# Altium integrated library Transistor.IntLib: 3457 symbols (part 10 of 78)
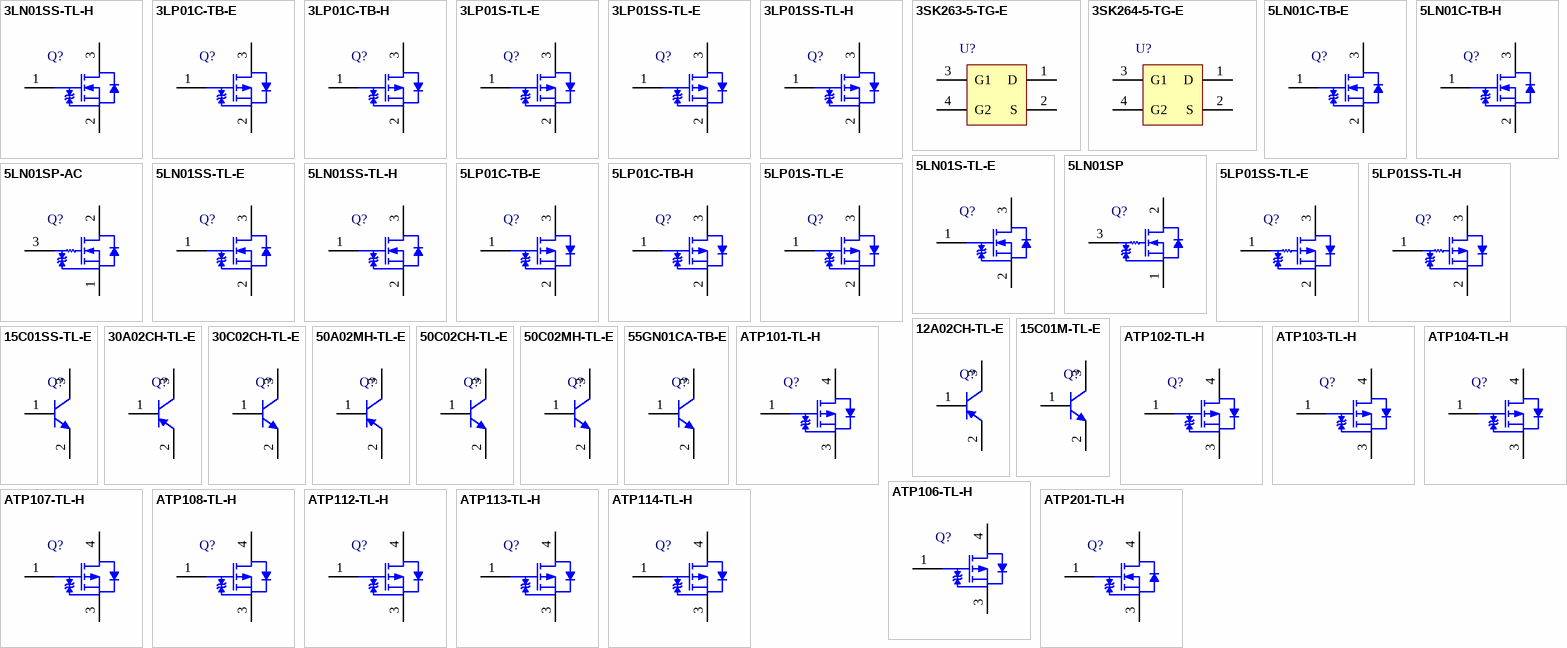
[diagram p103: symbols 3LN01SS-TL-H to ATP201-TL-H]

## ATP106-TL-H
designator Q?
P-Channel Power MOSFET, -40 V, -30 A, 25 mOhm, Single, 3-Pin ATPAK, Pb-Free, Tape and Reel; Manufacturer: On Semiconductor; PartNumber: ATP106-TL-H; Channel Polarity: P Channel; Ciss Typ (pF): 1380; Coss Typ (pF): 210; Crss Typ (pF): 150; ID Max (A): 30; PD Max (W): 40; VGS Max (V): 20; VGS(th) Max (V): 2.6; PackageVersion: Rev. O, 02/2012; PackageReference: ATPAK-3-369AM; PackageDescription: 3-Pin Flange Mount, Body 6.5 x 7.3 mm, Pitch 2.3 mm; Supplier 1: Digi-Key; Supplier Part Number 1: 869-1075-2-ND; Supplier 2: Digi-Key; Supplier Part Number 2: 869-1075-1-ND; Supplier 3: Digi-Key; Supplier Part Number 3: 869-1075-6-ND; Supplier 4: Newark; Supplier Part Number 4: 52T7523; Supplier 5: Mouser; Supplier Part Number 5: 863-ATP106-TL-H; Configuration: Single; Package Type: DPAK (Single Gauge) / ATPAK; Packing: Tape and Reel; RoHS: Pb-Free; V(BR)DSS Min (V): 40; Mounting Technology: Surface Mount; ComponentLink1Description: Manufacturer URL; ComponentLink1URL: http://www.onsemi.com/; ComponentLink2Description: Datasheet; ComponentLink2URL: http://www.onsemi.com/pub_link/Collateral/ENA1597-D.PDF; ComponentLink3Description: Package Specification; ComponentLink3URL: http://www.onsemi.com/pub_link/Collateral/369AM.PDF
footprint ONSC-ATPAK-3-369AM_V (DPAK, 3-Leads, Body 7.3x6.5mm, Pitch 2.3mm)
pins: 1 G, 3 S, 4 D

## ATP107-TL-H
designator Q?
P-Channel Power MOSFET, -40 V, -50 A, 17 mOhm, Single, 3-Pin ATPAK, Pb-Free, Tape and Reel; Manufacturer: On Semiconductor; PartNumber: ATP107-TL-H; Channel Polarity: P Channel; Ciss Typ (pF): 2400; Coss Typ (pF): 330; Crss Typ (pF): 240; ID Max (A): 50; V(BR)DSS Min (V): 40; VGS Max (V): 20; VGS(th) Max (V): 2.6; PackageVersion: Rev. O, 02/2012; PackageReference: ATPAK-3-369AM; PackageDescription: 3-Pin Flange Mount, Body 6.5 x 7.3 mm, Pitch 2.3 mm; Supplier 1: Digi-Key; Supplier Part Number 1: ATP107-TL-H-ND; Supplier 2: Newark; Supplier Part Number 2: 52T7524; Supplier 3: Mouser; Supplier Part Number 3: 863-ATP107-TL-H; Configuration: Single; Package Type: DPAK (Single Gauge) / ATPAK; Packing: Tape and Reel; PD Max (W): 50; RoHS: Pb-Free; Mounting Technology: Surface Mount; ComponentLink1Description: Manufacturer URL; ComponentLink1URL: http://www.onsemi.com/; ComponentLink2Description: Datasheet; ComponentLink2URL: http://www.onsemi.com/pub_link/Collateral/ENA1603-D.PDF; ComponentLink3Description: Package Specification; ComponentLink3URL: http://www.onsemi.com/pub_link/Collateral/369AM.PDF
footprint ONSC-ATPAK-3-369AM_V (DPAK, 3-Leads, Body 7.3x6.5mm, Pitch 2.3mm)
pins: 1 G, 3 S, 4 D

## ATP108-TL-H
designator Q?
P-Channel Power MOSFET, -40 V, -70 A, 10.4 mOhm, Single, 3-Pin ATPAK, Pb-Free, Tape and Reel; Manufacturer: On Semiconductor; PartNumber: ATP108-TL-H; Channel Polarity: P Channel; Ciss Typ (pF): 3850; Coss Typ (pF): 560; Crss Typ (pF): 390; ID Max (A): 70; PD Max (W): 60; V(BR)DSS Min (V): 40; VGS Max (V): 20; VGS(th) Max (V): 2.6; PackageVersion: Rev. O, 02/2012; PackageReference: ATPAK-3-369AM; PackageDescription: 3-Pin Flange Mount, Body 6.5 x 7.3 mm, Pitch 2.3 mm; Supplier 1: Digi-Key; Supplier Part Number 1: 869-1076-2-ND; Supplier 2: Digi-Key; Supplier Part Number 2: 869-1076-1-ND; Supplier 3: Digi-Key; Supplier Part Number 3: 869-1076-6-ND; Supplier 4: Newark; Supplier Part Number 4: 52T7525; Supplier 5: Mouser; Supplier Part Number 5: 863-ATP108-TL-H; Configuration: Single; Package Type: DPAK (Single Gauge) / ATPAK; Packing: Tape and Reel; RoHS: Pb-Free; Mounting Technology: Surface Mount; ComponentLink1Description: Manufacturer URL; ComponentLink1URL: http://www.onsemi.com/; ComponentLink2Description: Datasheet; ComponentLink2URL: http://www.onsemi.com/pub_link/Collateral/ENA1604-D.PDF; ComponentLink3Description: Package Specification; ComponentLink3URL: http://www.onsemi.com/pub_link/Collateral/369AM.PDF
footprint ONSC-ATPAK-3-369AM_V (DPAK, 3-Leads, Body 7.3x6.5mm, Pitch 2.3mm)
pins: 1 G, 3 S, 4 D

## ATP112-TL-H
designator Q?
P-Channel Power MOSFET, -60 V, -25 A, 43 mOhm, Single, 3-Pin ATPAK, Pb-Free, Tape and Reel; Manufacturer: On Semiconductor; PartNumber: ATP112-TL-H; Channel Polarity: P Channel; Ciss Typ (pF): 1450; Coss Typ (pF): 155; Crss Typ (pF): 125; ID Max (A): 25; PD Max (W): 40; V(BR)DSS Min (V): 60; VGS Max (V): 20; VGS(th) Max (V): 2.6; PackageVersion: Rev. O, 02/2012; PackageReference: ATPAK-3-369AM; PackageDescription: 3-Pin Flange Mount, Body 6.5 x 7.3 mm, Pitch 2.3 mm; Supplier 1: Digi-Key; Supplier Part Number 1: ATP112-TL-H-ND; Supplier 2: Newark; Supplier Part Number 2: 52T7526; Supplier 3: Mouser; Supplier Part Number 3: 863-ATP112-TL-H; Configuration: Single; Package Type: DPAK (Single Gauge) / ATPAK; Packing: Tape and Reel; RoHS: Pb-Free; Mounting Technology: Surface Mount; ComponentLink1Description: Manufacturer URL; ComponentLink1URL: http://www.onsemi.com/; ComponentLink2Description: Datasheet; ComponentLink2URL: http://www.onsemi.com/pub_link/Collateral/ENA1754-D.PDF; ComponentLink3Description: Package Specification; ComponentLink3URL: http://www.onsemi.com/pub_link/Collateral/369AM.PDF
footprint ONSC-ATPAK-3-369AM_V (DPAK, 3-Leads, Body 7.3x6.5mm, Pitch 2.3mm)
pins: 1 G, 3 S, 4 D

## ATP113-TL-H
designator Q?
P-Channel Power MOSFET, -60 V, -35 A, 29.5 mOhm, Single, 3-Pin ATPAK, Pb-Free, Tape and Reel; Manufacturer: On Semiconductor; PartNumber: ATP113-TL-H; Channel Polarity: P Channel; Ciss Typ (pF): 2400; Coss Typ (pF): 250; Crss Typ (pF): 195; ID Max (A): 35; PD Max (W): 50; V(BR)DSS Min (V): 60; VGS Max (V): 20; VGS(th) Max (V): 2.6; PackageVersion: Rev. O, 02/2012; PackageReference: ATPAK-3-369AM; PackageDescription: 3-Pin Flange Mount, Body 6.5 x 7.3 mm, Pitch 2.3 mm; Supplier 1: Digi-Key; Supplier Part Number 1: 869-1077-2-ND; Supplier 2: Digi-Key; Supplier Part Number 2: 869-1077-1-ND; Supplier 3: Digi-Key; Supplier Part Number 3: 869-1077-6-ND; Supplier 4: Newark; Supplier Part Number 4: 52T7527; Supplier 5: Mouser; Supplier Part Number 5: 863-ATP113-TL-H; Configuration: Single; Package Type: DPAK (Single Gauge) / ATPAK; Packing: Tape and Reel; RoHS: Pb-Free; Mounting Technology: Surface Mount; ComponentLink1Description: Manufacturer URL; ComponentLink1URL: http://www.onsemi.com/; ComponentLink2Description: Datasheet; ComponentLink2URL: http://www.onsemi.com/pub_link/Collateral/ENA1755-D.PDF; ComponentLink3Description: Package Specification; ComponentLink3URL: http://www.onsemi.com/pub_link/Collateral/369AM.PDF
footprint ONSC-ATPAK-3-369AM_V (DPAK, 3-Leads, Body 7.3x6.5mm, Pitch 2.3mm)
pins: 1 G, 3 S, 4 D

## ATP114-TL-H
designator Q?
P-Channel Power MOSFET, -60 V, -55 A, 16 mOhm, Single, 3-Pin ATPAK, Pb-Free, Tape and Reel; Manufacturer: On Semiconductor; PartNumber: ATP114-TL-H; Channel Polarity: P Channel; Ciss Typ (pF): 4000; Coss Typ (pF): 400; Crss Typ (pF): 315; ID Max (A): 55; PD Max (W): 60; VGS Max (V): 20; VGS(th) Max (V): 2.6; PackageVersion: Rev. O, 02/2012; PackageReference: ATPAK-3-369AM; PackageDescription: 3-Pin Flange Mount, Body 6.5 x 7.3 mm, Pitch 2.3 mm; Supplier 1: Digi-Key; Supplier Part Number 1: ATP114-TL-H-ND; Supplier 2: Mouser; Supplier Part Number 2: 863-ATP114-TL-H; Configuration: Single; Package Type: DPAK (Single Gauge) / ATPAK; Packing: Tape and Reel; RoHS: Pb-Free; V(BR)DSS Min (V): 60; Mounting Technology: Surface Mount; ComponentLink1Description: Manufacturer URL; ComponentLink1URL: http://www.onsemi.com/; ComponentLink2Description: Datasheet; ComponentLink2URL: http://www.onsemi.com/pub_link/Collateral/ATP114-D.PDF; ComponentLink3Description: Package Specification; ComponentLink3URL: http://www.onsemi.com/pub_link/Collateral/369AM.PDF
footprint ONSC-ATPAK-3-369AM_V (DPAK, 3-Leads, Body 7.3x6.5mm, Pitch 2.3mm)
pins: 1 G, 3 S, 4 D

## ATP201-TL-H
designator Q?
N-Channel Power MOSFET, 30 V, 35 A, 17 mOhm, Single, 3-Pin ATPAK, Pb-Free, Tape and Reel; Manufacturer: On Semiconductor; PartNumber: ATP201-TL-H; Channel Polarity: N Channel; Ciss Typ (pF): 985; Coss Typ (pF): 180; Crss Typ (pF): 100; ID Max (A): 35; PD Max (W): 30; VGS Max (V): 20; VGS(th) Max (V): 2.6; PackageVersion: Rev. O, 02/2012; PackageReference: ATPAK-3-369AM; PackageDescription: 3-Pin Flange Mount, Body 6.5 x 7.3 mm, Pitch 2.3 mm; Supplier 1: Digi-Key; Supplier Part Number 1: ATP201-TL-H-ND; Supplier 2: Mouser; Supplier Part Number 2: 863-ATP201-TL-H; Configuration: Single; Package Type: DPAK (Single Gauge) / ATPAK; Packing: Tape and Reel; RoHS: Pb-Free; V(BR)DSS Min (V): 30; Mounting Technology: Surface Mount; ComponentLink1Description: Manufacturer URL; ComponentLink1URL: http://www.onsemi.com/; ComponentLink2Description: Datasheet; ComponentLink2URL: http://www.onsemi.com/pub_link/Collateral/ATP201-D.PDF; ComponentLink3Description: Package Specification; ComponentLink3URL: http://www.onsemi.com/pub_link/Collateral/369AM.PDF
footprint ONSC-ATPAK-3-369AM_V (DPAK, 3-Leads, Body 7.3x6.5mm, Pitch 2.3mm)
pins: 1 G, 3 S, 4 D

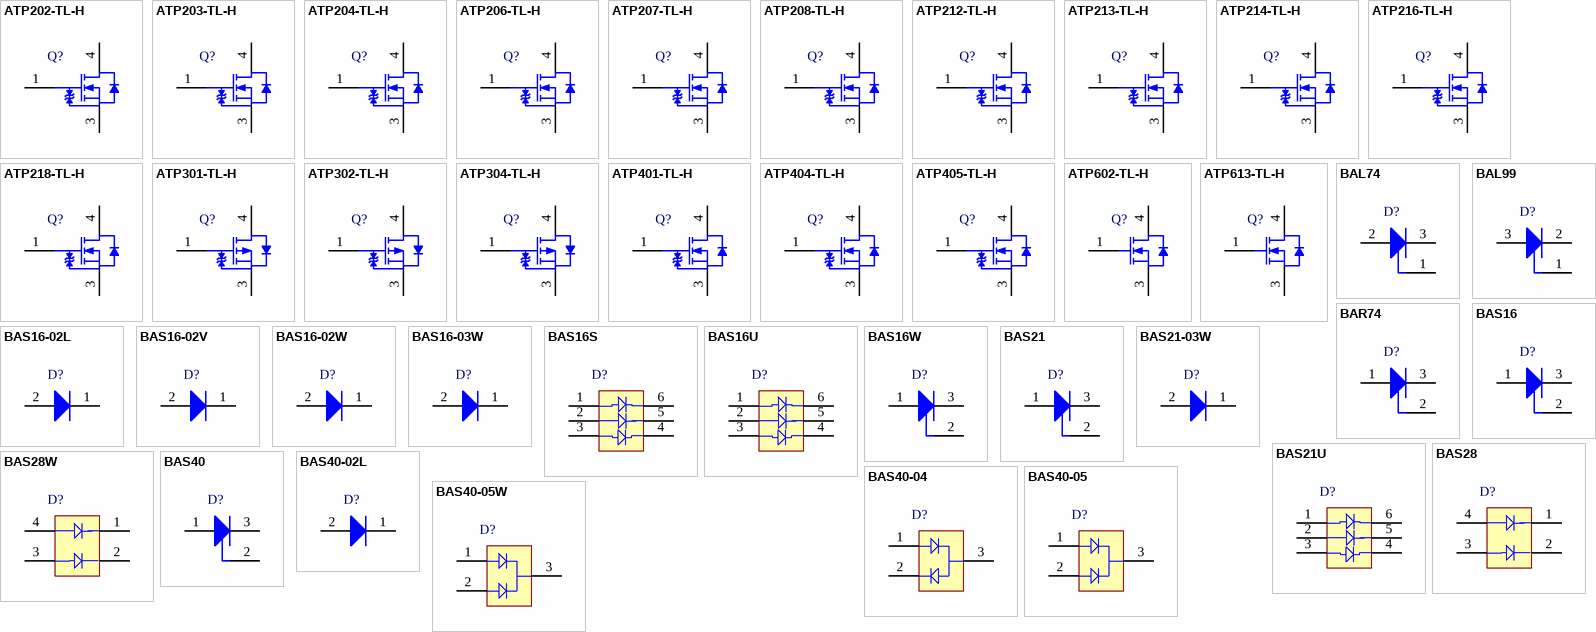
[diagram p11: symbols ATP202-TL-H to BAS40-05W]

## ATP202-TL-H
designator Q?
N-Channel Power MOSFET, 30 V, 50 A, 12 mOhm, Single, 3-Pin ATPAK, Pb-Free, Tape and Reel; Manufacturer: On Semiconductor; PartNumber: ATP202-TL-H; Channel Polarity: N Channel; Ciss Typ (pF): 1650; Coss Typ (pF): 285; Crss Typ (pF): 160; ID Max (A): 50; PD Max (W): 40; V(BR)DSS Min (V): 30; VGS Max (V): 20; VGS(th) Max (V): 2.6; PackageVersion: Rev. O, 02/2012; PackageReference: ATPAK-3-369AM; PackageDescription: 3-Pin Flange Mount, Body 6.5 x 7.3 mm, Pitch 2.3 mm; Supplier 1: Digi-Key; Supplier Part Number 1: 869-1078-2-ND; Supplier 2: Digi-Key; Supplier Part Number 2: 869-1078-1-ND; Supplier 3: Digi-Key; Supplier Part Number 3: 869-1078-6-ND; Supplier 4: Mouser; Supplier Part Number 4: 863-ATP202-TL-H; Configuration: Single; Package Type: DPAK (Single Gauge) / ATPAK; Packing: Tape and Reel; RoHS: Pb-Free; Mounting Technology: Surface Mount; ComponentLink1Description: Manufacturer URL; ComponentLink1URL: http://www.onsemi.com/; ComponentLink2Description: Datasheet; ComponentLink2URL: http://www.onsemi.com/pub_link/Collateral/ATP202-D.PDF; ComponentLink3Description: Package Specification; ComponentLink3URL: http://www.onsemi.com/pub_link/Collateral/369AM.PDF
footprint ONSC-ATPAK-3-369AM_V (DPAK, 3-Leads, Body 7.3x6.5mm, Pitch 2.3mm)
pins: 1 G, 3 S, 4 D

## ATP203-TL-H
designator Q?
N-Channel Power MOSFET, 30 V, 75 A, 8.2 mOhm, Single, 3-Pin ATPAK, Pb-Free, Tape and Reel; Manufacturer: On Semiconductor; PartNumber: ATP203-TL-H; Channel Polarity: N Channel; Ciss Typ (pF): 2750; Coss Typ (pF): 450; Crss Typ (pF): 265; ID Max (A): 75; PD Max (W): 50; V(BR)DSS Min (V): 30; VGS Max (V): 20; VGS(th) Max (V): 2.6; PackageVersion: Rev. O, 02/2012; PackageReference: ATPAK-3-369AM; PackageDescription: 3-Pin Flange Mount, Body 6.5 x 7.3 mm, Pitch 2.3 mm; Supplier 1: Digi-Key; Supplier Part Number 1: 869-1079-2-ND; Supplier 2: Digi-Key; Supplier Part Number 2: 869-1079-1-ND; Supplier 3: Digi-Key; Supplier Part Number 3: 869-1079-6-ND; Supplier 4: Mouser; Supplier Part Number 4: 863-ATP203-TL-H; Configuration: Single; Package Type: DPAK (Single Gauge) / ATPAK; Packing: Tape and Reel; RoHS: Pb-Free; Mounting Technology: Surface Mount; ComponentLink1Description: Manufacturer URL; ComponentLink1URL: http://www.onsemi.com/; ComponentLink2Description: Datasheet; ComponentLink2URL: http://www.onsemi.com/pub_link/Collateral/ATP203-D.PDF; ComponentLink3Description: Package Specification; ComponentLink3URL: http://www.onsemi.com/pub_link/Collateral/369AM.PDF
footprint ONSC-ATPAK-3-369AM_V (DPAK, 3-Leads, Body 7.3x6.5mm, Pitch 2.3mm)
pins: 1 G, 3 S, 4 D

## ATP204-TL-H
designator Q?
N-Channel Power MOSFET, 30 V, 100 A, 5.6 mOhm, Single, 3-Pin ATPAK, Pb-Free, Tape and Reel; Manufacturer: On Semiconductor; PartNumber: ATP204-TL-H; Channel Polarity: N Channel; Ciss Typ (pF): 4600; Coss Typ (pF): 700; Crss Typ (pF): 390; ID Max (A): 100; PD Max (W): 60; V(BR)DSS Min (V): 30; VGS Max (V): 20; VGS(th) Max (V): 2.6; PackageVersion: Rev. O, 02/2012; PackageReference: ATPAK-3-369AM; PackageDescription: 3-Pin Flange Mount, Body 6.5 x 7.3 mm, Pitch 2.3 mm; Supplier 1: Digi-Key; Supplier Part Number 1: 869-1080-2-ND; Supplier 2: Digi-Key; Supplier Part Number 2: 869-1080-1-ND; Supplier 3: Digi-Key; Supplier Part Number 3: 869-1080-6-ND; Supplier 4: Mouser; Supplier Part Number 4: 863-ATP204-TL-H; Configuration: Single; Package Type: DPAK (Single Gauge) / ATPAK; Packing: Tape and Reel; RoHS: Pb-Free; Mounting Technology: Surface Mount; ComponentLink1Description: Manufacturer URL; ComponentLink1URL: http://www.onsemi.com/; ComponentLink2Description: Datasheet; ComponentLink2URL: http://www.onsemi.com/pub_link/Collateral/ATP204-D.PDF; ComponentLink3Description: Package Specification; ComponentLink3URL: http://www.onsemi.com/pub_link/Collateral/369AM.PDF
footprint ONSC-ATPAK-3-369AM_V (DPAK, 3-Leads, Body 7.3x6.5mm, Pitch 2.3mm)
pins: 1 G, 3 S, 4 D

## ATP206-TL-H
designator Q?
N-Channel Power MOSFET, 40 V, 40 A, 16 mOhm, Single, 3-Pin ATPAK, Pb-Free, Tape and Reel; Manufacturer: On Semiconductor; PartNumber: ATP206-TL-H; Channel Polarity: N Channel; Ciss Typ (pF): 1630; Coss Typ (pF): 205; Crss Typ (pF): 110; ID Max (A): 40; VGS Max (V): 20; VGS(th) Max (V): 2.6; PackageVersion: Rev. O, 02/2012; PackageReference: ATPAK-3-369AM; PackageDescription: 3-Pin Flange Mount, Body 6.5 x 7.3 mm, Pitch 2.3 mm; Supplier 1: Digi-Key; Supplier Part Number 1: 869-1081-2-ND; Supplier 2: Digi-Key; Supplier Part Number 2: 869-1081-1-ND; Supplier 3: Digi-Key; Supplier Part Number 3: 869-1081-6-ND; Supplier 4: Mouser; Supplier Part Number 4: 863-ATP206-TL-H; Configuration: Single; Package Type: DPAK (Single Gauge) / ATPAK; Packing: Tape and Reel; PD Max (W): 40; RoHS: Pb-Free; V(BR)DSS Min (V): 40; Mounting Technology: Surface Mount; ComponentLink1Description: Manufacturer URL; ComponentLink1URL: http://www.onsemi.com/; ComponentLink2Description: Datasheet; ComponentLink2URL: http://www.onsemi.com/pub_link/Collateral/ATP206-D.PDF; ComponentLink3Description: Package Specification; ComponentLink3URL: http://www.onsemi.com/pub_link/Collateral/369AM.PDF
footprint ONSC-ATPAK-3-369AM_V (DPAK, 3-Leads, Body 7.3x6.5mm, Pitch 2.3mm)
pins: 1 G, 3 S, 4 D

## ATP207-TL-H
designator Q?
N-Channel Power MOSFET, 40 V, 65 A, 9.1 mOhm, Single, 3-Pin ATPAK, Pb-Free, Tape and Reel; Manufacturer: On Semiconductor; PartNumber: ATP207-TL-H; Channel Polarity: N Channel; Ciss Typ (pF): 2710; Coss Typ (pF): 330; Crss Typ (pF): 220; ID Max (A): 65; PD Max (W): 50; V(BR)DSS Min (V): 40; VGS Max (V): 20; VGS(th) Max (V): 2.6; PackageVersion: Rev. O, 02/2012; PackageReference: ATPAK-3-369AM; PackageDescription: 3-Pin Flange Mount, Body 6.5 x 7.3 mm, Pitch 2.3 mm; Supplier 1: Digi-Key; Supplier Part Number 1: 869-1082-2-ND; Supplier 2: Digi-Key; Supplier Part Number 2: 869-1082-1-ND; Supplier 3: Digi-Key; Supplier Part Number 3: 869-1082-6-ND; Supplier 4: Mouser; Supplier Part Number 4: 863-ATP207-TL-H; Configuration: Single; Package Type: DPAK (Single Gauge) / ATPAK; Packing: Tape and Reel; RoHS: Pb-Free; Mounting Technology: Surface Mount; ComponentLink1Description: Manufacturer URL; ComponentLink1URL: http://www.onsemi.com/; ComponentLink2Description: Datasheet; ComponentLink2URL: http://www.onsemi.com/pub_link/Collateral/ATP207-D.PDF; ComponentLink3Description: Package Specification; ComponentLink3URL: http://www.onsemi.com/pub_link/Collateral/369AM.PDF
footprint ONSC-ATPAK-3-369AM_V (DPAK, 3-Leads, Body 7.3x6.5mm, Pitch 2.3mm)
pins: 1 G, 3 S, 4 D

## ATP208-TL-H
designator Q?
N-Channel Power MOSFET, 40 V, 90 A, 6 mOhm, Single, 3-Pin ATPAK, Pb-Free, Tape and Reel; Manufacturer: On Semiconductor; PartNumber: ATP208-TL-H; Channel Polarity: N Channel; Ciss Typ (pF): 4510; Coss Typ (pF): 535; Crss Typ (pF): 385; ID Max (A): 90; PD Max (W): 60; V(BR)DSS Min (V): 40; VGS Max (V): 20; VGS(th) Max (V): 2.6; PackageVersion: Rev. O, 02/2012; PackageReference: ATPAK-3-369AM; PackageDescription: 3-Pin Flange Mount, Body 6.5 x 7.3 mm, Pitch 2.3 mm; Supplier 1: Digi-Key; Supplier Part Number 1: 869-1083-2-ND; Supplier 2: Digi-Key; Supplier Part Number 2: 869-1083-1-ND; Supplier 3: Digi-Key; Supplier Part Number 3: 869-1083-6-ND; Supplier 4: Mouser; Supplier Part Number 4: 863-ATP208-TL-H; Configuration: Single; Package Type: DPAK (Single Gauge) / ATPAK; Packing: Tape and Reel; RoHS: Pb-Free; Mounting Technology: Surface Mount; ComponentLink1Description: Manufacturer URL; ComponentLink1URL: http://www.onsemi.com/; ComponentLink2Description: Datasheet; ComponentLink2URL: http://www.onsemi.com/pub_link/Collateral/ATP208-D.PDF; ComponentLink3Description: Package Specification; ComponentLink3URL: http://www.onsemi.com/pub_link/Collateral/369AM.PDF
footprint ONSC-ATPAK-3-369AM_V (DPAK, 3-Leads, Body 7.3x6.5mm, Pitch 2.3mm)
pins: 1 G, 3 S, 4 D

## ATP212-TL-H
designator Q?
N-Channel Power MOSFET, 60 V, 35 A, 23 mOhm, Single, 3-Pin ATPAK, Pb-Free, Tape and Reel; Manufacturer: On Semiconductor; PartNumber: ATP212-TL-H; Channel Polarity: N Channel; Ciss Typ (pF): 1820; Coss Typ (pF): 150; Crss Typ (pF): 100; ID Max (A): 35; PD Max (W): 40; V(BR)DSS Min (V): 60; VGS Max (V): 20; VGS(th) Max (V): 2.6; PackageVersion: Rev. O, 02/2012; PackageReference: ATPAK-3-369AM; PackageDescription: 3-Pin Flange Mount, Body 6.5 x 7.3 mm, Pitch 2.3 mm; Supplier 1: Digi-Key; Supplier Part Number 1: 869-1084-2-ND; Supplier 2: Digi-Key; Supplier Part Number 2: 869-1084-1-ND; Supplier 3: Digi-Key; Supplier Part Number 3: 869-1084-6-ND; Supplier 4: Mouser; Supplier Part Number 4: 863-ATP212-TL-H; Configuration: Single; Package Type: DPAK (Single Gauge) / ATPAK; Packing: Tape and Reel; RoHS: Pb-Free; Mounting Technology: Surface Mount; ComponentLink1Description: Manufacturer URL; ComponentLink1URL: http://www.onsemi.com/; ComponentLink2Description: Datasheet; ComponentLink2URL: http://www.onsemi.com/pub_link/Collateral/ATP212-D.PDF; ComponentLink3Description: Package Specification; ComponentLink3URL: http://www.onsemi.com/pub_link/Collateral/369AM.PDF
footprint ONSC-ATPAK-3-369AM_V (DPAK, 3-Leads, Body 7.3x6.5mm, Pitch 2.3mm)
pins: 1 G, 3 S, 4 D

## ATP213-TL-H
designator Q?
N-Channel Power MOSFET, 60 V, 50 A, 16 mOhm, Single, 3-Pin ATPAK, Pb-Free, Tape and Reel; Manufacturer: On Semiconductor; PartNumber: ATP213-TL-H; Channel Polarity: N Channel; Ciss Typ (pF): 3150; Coss Typ (pF): 310; Crss Typ (pF): 190; ID Max (A): 50; V(BR)DSS Min (V): 60; VGS Max (V): 20; VGS(th) Max (V): 2.6; PackageVersion: Rev. O, 02/2012; PackageReference: ATPAK-3-369AM; PackageDescription: 3-Pin Flange Mount, Body 6.5 x 7.3 mm, Pitch 2.3 mm; Supplier 1: Digi-Key; Supplier Part Number 1: 869-1085-2-ND; Supplier 2: Digi-Key; Supplier Part Number 2: 869-1085-1-ND; Supplier 3: Digi-Key; Supplier Part Number 3: 869-1085-6-ND; Supplier 4: Mouser; Supplier Part Number 4: 863-ATP213-TL-H; Configuration: Single; Package Type: DPAK (Single Gauge) / ATPAK; Packing: Tape and Reel; PD Max (W): 50; RoHS: Pb-Free; Mounting Technology: Surface Mount; ComponentLink1Description: Manufacturer URL; ComponentLink1URL: http://www.onsemi.com/; ComponentLink2Description: Datasheet; ComponentLink2URL: http://www.onsemi.com/pub_link/Collateral/ATP213-D.PDF; ComponentLink3Description: Package Specification; ComponentLink3URL: http://www.onsemi.com/pub_link/Collateral/369AM.PDF
footprint ONSC-ATPAK-3-369AM_V (DPAK, 3-Leads, Body 7.3x6.5mm, Pitch 2.3mm)
pins: 1 G, 3 S, 4 D

## ATP214-TL-H
designator Q?
N-Channel Power MOSFET, 60 V, 75 A, 8.1 mOhm, Single, 3-Pin ATPAK, Pb-Free, Tape and Reel; Manufacturer: On Semiconductor; PartNumber: ATP214-TL-H; Channel Polarity: N Channel; Ciss Typ (pF): 4850; Coss Typ (pF): 370; Crss Typ (pF): 280; ID Max (A): 75; PD Max (W): 60; VGS Max (V): 20; VGS(th) Max (V): 2.6; PackageVersion: Rev. O, 02/2012; PackageReference: ATPAK-3-369AM; PackageDescription: 3-Pin Flange Mount, Body 6.5 x 7.3 mm, Pitch 2.3 mm; Supplier 1: Digi-Key; Supplier Part Number 1: ATP214-TL-H-ND; Supplier 2: Mouser; Supplier Part Number 2: 863-ATP214-TL-H; Configuration: Single; Package Type: DPAK (Single Gauge) / ATPAK; Packing: Tape and Reel; RoHS: Pb-Free; V(BR)DSS Min (V): 60; Mounting Technology: Surface Mount; ComponentLink1Description: Manufacturer URL; ComponentLink1URL: http://www.onsemi.com/; ComponentLink2Description: Datasheet; ComponentLink2URL: http://www.onsemi.com/pub_link/Collateral/ENA1712-D.PDF; ComponentLink3Description: Package Specification; ComponentLink3URL: http://www.onsemi.com/pub_link/Collateral/369AM.PDF
footprint ONSC-ATPAK-3-369AM_V (DPAK, 3-Leads, Body 7.3x6.5mm, Pitch 2.3mm)
pins: 1 G, 3 S, 4 D

## ATP216-TL-H
designator Q?
N-Channel Power MOSFET, 50 V, 35 A, 23 mOhm, Single, 3-Pin ATPAK, Pb-Free, Tape and Reel; Manufacturer: On Semiconductor; PartNumber: ATP216-TL-H; Channel Polarity: N Channel; Ciss Typ (pF): 2700; Coss Typ (pF): 150; Crss Typ (pF): 110; ID Max (A): 35; PD Max (W): 40; V(BR)DSS Min (V): 50; VGS Max (V): 10; VGS(th) Max (V): 1.4; PackageVersion: Rev. O, 02/2012; PackageReference: ATPAK-3-369AM; PackageDescription: 3-Pin Flange Mount, Body 6.5 x 7.3 mm, Pitch 2.3 mm; Supplier 1: Digi-Key; Supplier Part Number 1: ATP216-TL-H-ND; Supplier 2: Mouser; Supplier Part Number 2: 863-ATP216-TL-H; Configuration: Single; Package Type: DPAK (Single Gauge) / ATPAK; Packing: Tape and Reel; RoHS: Pb-Free; Mounting Technology: Surface Mount; ComponentLink1Description: Manufacturer URL; ComponentLink1URL: http://www.onsemi.com/; ComponentLink2Description: Datasheet; ComponentLink2URL: http://www.onsemi.com/pub_link/Collateral/ATP216-D.PDF; ComponentLink3Description: Package Specification; ComponentLink3URL: http://www.onsemi.com/pub_link/Collateral/369AM.PDF
footprint ONSC-ATPAK-3-369AM_V (DPAK, 3-Leads, Body 7.3x6.5mm, Pitch 2.3mm)
pins: 1 G, 3 S, 4 D

## ATP218-TL-H
designator Q?
N-Channel Power MOSFET, 30 V, 100 A, 3.8 mOhm, Single, 3-Pin ATPAK, Pb-Free, Tape and Reel; Manufacturer: On Semiconductor; PartNumber: ATP218-TL-H; Channel Polarity: N Channel; Ciss Typ (pF): 6600; Coss Typ (pF): 780; Crss Typ (pF): 600; ID Max (A): 100; PD Max (W): 60; V(BR)DSS Min (V): 30; VGS Max (V): 10; VGS(th) Max (V): 1.3; PackageVersion: Rev. O, 02/2012; PackageReference: ATPAK-3-369AM; PackageDescription: 3-Pin Flange Mount, Body 6.5 x 7.3 mm, Pitch 2.3 mm; Supplier 1: Digi-Key; Supplier Part Number 1: ATP218-TL-H-ND; Supplier 2: Mouser; Supplier Part Number 2: 863-ATP218-TL-H; Configuration: Single; Package Type: DPAK (Single Gauge) / ATPAK; Packing: Tape and Reel; RoHS: Pb-Free; Mounting Technology: Surface Mount; ComponentLink1Description: Manufacturer URL; ComponentLink1URL: http://www.onsemi.com/; ComponentLink2Description: Datasheet; ComponentLink2URL: http://www.onsemi.com/pub_link/Collateral/ATP218-D.PDF; ComponentLink3Description: Package Specification; ComponentLink3URL: http://www.onsemi.com/pub_link/Collateral/369AM.PDF
footprint ONSC-ATPAK-3-369AM_V (DPAK, 3-Leads, Body 7.3x6.5mm, Pitch 2.3mm)
pins: 1 G, 3 S, 4 D

## ATP301-TL-H
designator Q?
P-Channel Power MOSFET, -100 V, -28 A, 75 mOhm, 3-Pin ATPAK, Pb-Free, Tape and Reel; Manufacturer: On Semiconductor; PartNumber: ATP301-TL-H; Channel Polarity: P Channel; Ciss Typ (pF): 4000; Configuration: Single; Coss Typ (pF): 270; Crss Typ (pF): 150; ID Max (A): 28; PD Max (W): 70; V(BR)DSS Min (V): 100; VGS Max (V): 20; VGS(th) Max (V): 3.5; PackageVersion: Rev. O, 02/2012; PackageReference: ATPAK-3-369AM; PackageDescription: 3-Pin Flange Mount, Body 6.5 x 7.3 mm, Pitch 2.3 mm; Supplier 1: Digi-Key; Supplier Part Number 1: 869-1086-2-ND; Supplier 2: Digi-Key; Supplier Part Number 2: 869-1086-1-ND; Supplier 3: Digi-Key; Supplier Part Number 3: 869-1086-6-ND; Supplier 4: Newark; Supplier Part Number 4: 52T7541; Supplier 5: Mouser; Supplier Part Number 5: 863-ATP301-TL-H; Package Type: DPAK (Single Gauge) / ATPAK; Packing: Tape and Reel; RoHS: Pb-Free; Mounting Technology: Surface Mount; ComponentLink1Description: Manufacturer URL; ComponentLink1URL: http://www.onsemi.com/; ComponentLink2Description: Datasheet; ComponentLink2URL: http://www.onsemi.com/pub_link/Collateral/ATP301-D.PDF; ComponentLink3Description: Package Specification; ComponentLink3URL: http://www.onsemi.com/pub_link/Collateral/369AM.PDF
footprint ONSC-ATPAK-3-369AM_V (DPAK, 3-Leads, Body 7.3x6.5mm, Pitch 2.3mm)
pins: 1 G, 3 S, 4 D

## ATP302-TL-H
designator Q?
P-Channel Power MOSFET, -60 V, -70 A, 13 mOhm, 3-Pin ATPAK, Pb-Free, Tape and Reel; Manufacturer: On Semiconductor; PartNumber: ATP302-TL-H; Channel Polarity: P Channel; Ciss Typ (pF): 5400; Configuration: Single; Coss Typ (pF): 500; Crss Typ (pF): 370; ID Max (A): 70; V(BR)DSS Min (V): 60; VGS Max (V): 20; VGS(th) Max (V): 2.6; PackageVersion: Rev. O, 02/2012; PackageReference: ATPAK-3-369AM; PackageDescription: 3-Pin Flange Mount, Body 6.5 x 7.3 mm, Pitch 2.3 mm; Supplier 1: Digi-Key; Supplier Part Number 1: ATP302-TL-H-ND; Supplier 2: Newark; Supplier Part Number 2: 52T7542; Supplier 3: Mouser; Supplier Part Number 3: 863-ATP302-TL-H; Package Type: DPAK (Single Gauge) / ATPAK; Packing: Tape and Reel; PD Max (W): 70; RoHS: Pb-Free; Mounting Technology: Surface Mount; ComponentLink1Description: Manufacturer URL; ComponentLink1URL: http://www.onsemi.com/; ComponentLink2Description: Datasheet; ComponentLink2URL: http://www.onsemi.com/pub_link/Collateral/ATP302-D.PDF; ComponentLink3Description: Package Specification; ComponentLink3URL: http://www.onsemi.com/pub_link/Collateral/369AM.PDF
footprint ONSC-ATPAK-3-369AM_V (DPAK, 3-Leads, Body 7.3x6.5mm, Pitch 2.3mm)
pins: 1 G, 3 S, 4 D

## ATP304-TL-H
designator Q?
P-Channel Power MOSFET, -60 V, -100 A, 6.5 mOhm, 3-Pin ATPAK, Pb-Free, Tape and Reel; Manufacturer: On Semiconductor; PartNumber: ATP304-TL-H; Channel Polarity: P Channel; Ciss Typ (pF): 13000; Configuration: Single; Coss Typ (pF): 1080; Crss Typ (pF): 760; ID Max (A): 100; PD Max (W): 90; Qrr Typ (nC): 245; V(BR)DSS Min (V): 60; VGS Max (V): 20; VGS(th) Max (V): 2.6; PackageVersion: Rev. O, 02/2012; PackageReference: ATPAK-3-369AM; PackageDescription: 3-Pin Flange Mount, Body 6.5 x 7.3 mm, Pitch 2.3 mm; Supplier 1: Newark; Supplier Part Number 1: 97W4952; Supplier 2: Mouser; Supplier Part Number 2: 863-ATP304-TL-H; Package Type: DPAK (Single Gauge) / ATPAK; Packing: Tape and Reel; RoHS: Pb-Free; Mounting Technology: Surface Mount; ComponentLink1Description: Manufacturer URL; ComponentLink1URL: http://www.onsemi.com/; ComponentLink2Description: Datasheet; ComponentLink2URL: http://www.onsemi.com/pub_link/Collateral/ENA2192-D.PDF; ComponentLink3Description: Package Specification; ComponentLink3URL: http://www.onsemi.com/pub_link/Collateral/369AM.PDF
footprint ONSC-ATPAK-3-369AM_V (DPAK, 3-Leads, Body 7.3x6.5mm, Pitch 2.3mm)
pins: 1 G, 3 S, 4 D

## ATP401-TL-H
designator Q?
N-Channel Power MOSFET, 60 V, 100 A, 3.7 mOhm, 3-Pin ATPAK, Pb-Free, Tape and Reel; Manufacturer: On Semiconductor; PartNumber: ATP401-TL-H; Channel Polarity: N Channel; Ciss Typ (pF): 17000; Configuration: Single; Coss Typ (pF): 1000; Crss Typ (pF): 770; ID Max (A): 100; PD Max (W): 90; V(BR)DSS Min (V): 60; VGS Max (V): 20; VGS(th) Max (V): 2.6; PackageVersion: Rev. O, 02/2012; PackageReference: ATPAK-3-369AM; PackageDescription: 3-Pin Flange Mount, Body 6.5 x 7.3 mm, Pitch 2.3 mm; Supplier 1: Newark; Supplier Part Number 1: 97W4953; Supplier 2: Mouser; Supplier Part Number 2: 863-ATP401-TL-H; Package Type: DPAK (Single Gauge) / ATPAK; Packing: Tape and Reel; RoHS: Pb-Free; Mounting Technology: Surface Mount; ComponentLink1Description: Manufacturer URL; ComponentLink1URL: http://www.onsemi.com/; ComponentLink2Description: Datasheet; ComponentLink2URL: http://www.onsemi.com/pub_link/Collateral/ENA2167-D.PDF; ComponentLink3Description: Package Specification; ComponentLink3URL: http://www.onsemi.com/pub_link/Collateral/369AM.PDF
footprint ONSC-ATPAK-3-369AM_V (DPAK, 3-Leads, Body 7.3x6.5mm, Pitch 2.3mm)
pins: 1 G, 3 S, 4 D

## ATP404-TL-H
designator Q?
N-Channel Power MOSFET, 60 V, 95 A, 7.2 mOhm, 3-Pin ATPAK, Pb-Free, Tape and Reel; Manufacturer: On Semiconductor; PartNumber: ATP404-TL-H; Channel Polarity: N Channel; Ciss Typ (pF): 6400; Configuration: Single; Coss Typ (pF): 490; Crss Typ (pF): 380; ID Max (A): 95; PD Max (W): 70; V(BR)DSS Min (V): 60; VGS Max (V): 20; VGS(th) Max (V): 2.6; PackageVersion: Rev. O, 02/2012; PackageReference: ATPAK-3-369AM; PackageDescription: 3-Pin Flange Mount, Body 6.5 x 7.3 mm, Pitch 2.3 mm; Supplier 1: Digi-Key; Supplier Part Number 1: 869-1087-2-ND; Supplier 2: Digi-Key; Supplier Part Number 2: 869-1087-1-ND; Supplier 3: Digi-Key; Supplier Part Number 3: 869-1087-6-ND; Supplier 4: Mouser; Supplier Part Number 4: 863-ATP404-TL-H; Package Type: DPAK (Single Gauge) / ATPAK; Packing: Tape and Reel; RoHS: Pb-Free; Mounting Technology: Surface Mount; ComponentLink1Description: Manufacturer URL; ComponentLink1URL: http://www.onsemi.com/; ComponentLink2Description: Datasheet; ComponentLink2URL: http://www.onsemi.com/pub_link/Collateral/ATP404-D.PDF; ComponentLink3Description: Package Specification; ComponentLink3URL: http://www.onsemi.com/pub_link/Collateral/369AM.PDF
footprint ONSC-ATPAK-3-369AM_V (DPAK, 3-Leads, Body 7.3x6.5mm, Pitch 2.3mm)
pins: 1 G, 3 S, 4 D

## ATP405-TL-H
designator Q?
N-Channel Power MOSFET, 100 V, 40 A, 33 mOhm, 3-Pin ATPAK, Pb-Free, Tape and Reel; Manufacturer: On Semiconductor; PartNumber: ATP405-TL-H; Channel Polarity: N Channel; Ciss Typ (pF): 4000; Configuration: Single; Coss Typ (pF): 300; Crss Typ (pF): 170; ID Max (A): 40; PD Max (W): 70; V(BR)DSS Min (V): 100; VGS Max (V): 20; VGS(th) Max (V): 3.5; PackageVersion: Rev. O, 02/2012; PackageReference: ATPAK-3-369AM; PackageDescription: 3-Pin Flange Mount, Body 6.5 x 7.3 mm, Pitch 2.3 mm; Supplier 1: Digi-Key; Supplier Part Number 1: 869-1088-2-ND; Supplier 2: Digi-Key; Supplier Part Number 2: 869-1088-1-ND; Supplier 3: Digi-Key; Supplier Part Number 3: 869-1088-6-ND; Supplier 4: Mouser; Supplier Part Number 4: 863-ATP405-TL-H; Package Type: DPAK (Single Gauge) / ATPAK; Packing: Tape and Reel; RoHS: Pb-Free; Mounting Technology: Surface Mount; ComponentLink1Description: Manufacturer URL; ComponentLink1URL: http://www.onsemi.com/; ComponentLink2Description: Datasheet; ComponentLink2URL: http://www.onsemi.com/pub_link/Collateral/ATP405-D.PDF; ComponentLink3Description: Package Specification; ComponentLink3URL: http://www.onsemi.com/pub_link/Collateral/369AM.PDF
footprint ONSC-ATPAK-3-369AM_V (DPAK, 3-Leads, Body 7.3x6.5mm, Pitch 2.3mm)
pins: 1 G, 3 S, 4 D

## ATP602-TL-H
designator Q?
N-Channel Power MOSFET, 600 V, 5 A, 2.7 Ohm, 3-Pin ATPAK, Pb-Free, Tape and Reel; Manufacturer: On Semiconductor; PartNumber: ATP602-TL-H; Channel Polarity: N Channel; Ciss Typ (pF): 350; Configuration: Single; Coss Typ (pF): 68; Crss Typ (pF): 15; ID Max (A): 5; PD Max (W): 70; V(BR)DSS Min (V): 600; VGS Max (V): 30; PackageVersion: Rev. O, 02/2012; PackageReference: ATPAK-3-369AM; PackageDescription: 3-Pin Flange Mount, Body 6.5 x 7.3 mm, Pitch 2.3 mm; Supplier 1: Digi-Key; Supplier Part Number 1: 869-1089-2-ND; Supplier 2: Digi-Key; Supplier Part Number 2: 869-1089-1-ND; Supplier 3: Digi-Key; Supplier Part Number 3: 869-1089-6-ND; Supplier 4: Mouser; Supplier Part Number 4: 863-ATP602-TL-H; Package Type: DPAK (Single Gauge) / ATPAK; Packing: Tape and Reel; RoHS: Pb-Free; VGS(th) Max (V): 5; Mounting Technology: Surface Mount; ComponentLink1Description: Manufacturer URL; ComponentLink1URL: http://www.onsemi.com/; ComponentLink2Description: Datasheet; ComponentLink2URL: http://www.onsemi.com/pub_link/Collateral/ATP602-D.PDF; ComponentLink3Description: Package Specification; ComponentLink3URL: http://www.onsemi.com/pub_link/Collateral/369AM.PDF
footprint ONSC-ATPAK-3-369AM_V (DPAK, 3-Leads, Body 7.3x6.5mm, Pitch 2.3mm)
pins: 1 G, 3 S, 4 D

## ATP613-TL-H
designator Q?
N-Channel Power MOSFET, 500 V, 5.5 A, 2 Ohm, 3-Pin ATPAK, Pb-Free, Tape and Reel; Manufacturer: On Semiconductor; PartNumber: ATP613-TL-H; Channel Polarity: N Channel; Ciss Typ (pF): 350; Configuration: Single; Coss Typ (pF): 68; Crss Typ (pF): 15; ID Max (A): 5.5; PD Max (W): 70; Qrr Typ (nC): 120; V(BR)DSS Min (V): 500; VGS Max (V): 30; VGS(th) Max (V): 5; PackageVersion: Rev. O, 02/2012; PackageReference: ATPAK-3-369AM; PackageDescription: 3-Pin Flange Mount, Body 6.5 x 7.3 mm, Pitch 2.3 mm; Supplier 1: Digi-Key; Supplier Part Number 1: ATP613-TL-H-ND; Supplier 2: Mouser; Supplier Part Number 2: 863-ATP613-TL-H; Package Type: DPAK (Single Gauge) / ATPAK; Packing: Tape and Reel; RoHS: Pb-Free; Mounting Technology: Surface Mount; ComponentLink1Description: Manufacturer URL; ComponentLink1URL: http://www.onsemi.com/; ComponentLink2Description: Datasheet; ComponentLink2URL: http://www.onsemi.com/pub_link/Collateral/ENA1903-D.PDF; ComponentLink3Description: Package Specification; ComponentLink3URL: http://www.onsemi.com/pub_link/Collateral/369AM.PDF
footprint ONSC-ATPAK-3-369AM_V (DPAK, 3-Leads, Body 7.3x6.5mm, Pitch 2.3mm)
pins: 1 G, 3 S, 4 D

## BAL74
designator D?
Silicon Switching Diode, SOT23, Reel, Green; Manufacturer: Infineon; PartNumber: BAL74; Configuration: Single; Green: TRUE; IF (max): 250 mA; IR (max): 100 nA; trr (max): 4 ns; VBR (min): 50 V; VF (max): 1 V; PackageVersion: Apr-08; PackageReference: SOT23; PackageDescription: 3-Pin Small Outline Transistor Package, 1.3 x 2.9 mm Body, 0.95 mm Pitch; VR (max): 50 V; Mounting Technology: Surface Mount; ComponentLink1Description: Manufacturer URL; ComponentLink1URL: http://www.infineon.com/; ComponentLink2Description: Datasheet; ComponentLink2URL: http://www.infineon.com/dgdl/bal74_bar74series.pdf?folderId=db3a30431400ef6801141b5844e103ea&fileId=db3a30431400ef6801141b598e6703eb; ComponentLink3Description: Package Specification; ComponentLink3URL: http://www.infineon.com/dgdl/SOT23-Package_Overview.pdf?folderId=db3a30431936bc4b0119532290053c66&fileId=db3a30431936bc4b0119533468123c85
footprint INF-SOT23_N (SOT23, 3-Leads, Body 2.9x1.3 mm, Pitch 0.95 mm, IPC Medium Density)
footprint INF-SOT23_L (SOT23, 3-Leads, Body 2.9x1.3 mm, Pitch 0.95 mm, IPC High Density)
footprint INF-SOT23_M (SOT23, 3-Leads, Body 2.9x1.3 mm, Pitch 0.95 mm, IPC Low Density)
pins: 1 NC, 2 A, 3 K

## BAL99
designator D?
Silicon Switching Diode, SOT23, Reel, Green; Manufacturer: Infineon; PartNumber: BAL99; Configuration: Single; Green: TRUE; IF (max): 250 mA; IR (max): 1,000 nA; trr (max): 4 ns; VBR (min): 85 V; VF (max): 1.25 V; VR (max): 80 V; PackageVersion: Apr-08; PackageReference: SOT23; PackageDescription: 3-Pin Small Outline Transistor Package, 1.3 x 2.9 mm Body, 0.95 mm Pitch; Mounting Technology: Surface Mount; ComponentLink1Description: Manufacturer URL; ComponentLink1URL: http://www.infineon.com/; ComponentLink2Description: Datasheet; ComponentLink2URL: http://www.infineon.com/dgdl/bal99series.pdf?folderId=db3a30431400ef6801141b5844e103ea&fileId=db3a30431400ef6801141b842ae203f6; ComponentLink3Description: Package Specification; ComponentLink3URL: http://www.infineon.com/dgdl/SOT23-Package_Overview.pdf?folderId=db3a30431936bc4b0119532290053c66&fileId=db3a30431936bc4b0119533468123c85
footprint INF-SOT23_N (SOT23, 3-Leads, Body 2.9x1.3 mm, Pitch 0.95 mm, IPC Medium Density)
footprint INF-SOT23_L (SOT23, 3-Leads, Body 2.9x1.3 mm, Pitch 0.95 mm, IPC High Density)
footprint INF-SOT23_M (SOT23, 3-Leads, Body 2.9x1.3 mm, Pitch 0.95 mm, IPC Low Density)
pins: 1 NC, 2 K, 3 A

## BAR74
designator D?
Silicon Switching Diode, SOT23, Reel, Green; Manufacturer: Infineon; PartNumber: BAR74; Configuration: Single; Green: TRUE; IF (max): 250 mA; IR (max): 100 nA; trr (max): 4 ns; VBR (min): 50 V; VF (max): 1 V; PackageVersion: Apr-08; PackageReference: SOT23; PackageDescription: 3-Pin Small Outline Transistor Package, 1.3 x 2.9 mm Body, 0.95 mm Pitch; Supplier 1: Mouser; Supplier Part Number 1: N/A; VR (max): 50 V; Mounting Technology: Surface Mount; ComponentLink1Description: Manufacturer URL; ComponentLink1URL: http://www.infineon.com/; ComponentLink2Description: Datasheet; ComponentLink2URL: http://www.infineon.com/dgdl/bal74_bar74series.pdf?folderId=db3a30431400ef6801141b5844e103ea&fileId=db3a30431400ef6801141b598e6703eb; ComponentLink3Description: Package Specification; ComponentLink3URL: http://www.infineon.com/dgdl/SOT23-Package_Overview.pdf?folderId=db3a30431936bc4b0119532290053c66&fileId=db3a30431936bc4b0119533468123c85
footprint INF-SOT23_N (SOT23, 3-Leads, Body 2.9x1.3 mm, Pitch 0.95 mm, IPC Medium Density)
footprint INF-SOT23_L (SOT23, 3-Leads, Body 2.9x1.3 mm, Pitch 0.95 mm, IPC High Density)
footprint INF-SOT23_M (SOT23, 3-Leads, Body 2.9x1.3 mm, Pitch 0.95 mm, IPC Low Density)
pins: 1 A, 2 NC, 3 K

## BAS16
designator D?
Silicon Switching Diode, SOT23, Reel, Green; Manufacturer: Infineon; PartNumber: BAS16; Configuration: Single; Green: TRUE; IF (max): 250 mA; IR (max): 100 nA; trr (max): 4 ns; VBR (min): 85 V; VF (max): 1.25 V; VR (max): 80 V; PackageVersion: Apr-08; PackageReference: SOT23; PackageDescription: 3-Pin Small Outline Transistor Package, 1.3 x 2.9 mm Body, 0.95 mm Pitch; Supplier 1: Arrow; Supplier Part Number 1: 8HyBX_W1tYiNNDFhmLwZy90oP_obMHdMi5XrAM27vKA; Supplier 2: Farnell; Supplier Part Number 2: 1056496RL; Supplier 3: Farnell; Supplier Part Number 3: 1056496; Mounting Technology: Surface Mount; ComponentLink1Description: Manufacturer URL; ComponentLink1URL: http://www.infineon.com/; ComponentLink2Description: Datasheet; ComponentLink2URL: http://www.infineon.com/dgdl/bas16series.pdf?folderId=db3a30431400ef6801141b5844e103ea&fileId=db3a30431400ef6801141b93811b03ff; ComponentLink3Description: Package Specification; ComponentLink3URL: http://www.infineon.com/dgdl/SOT23-Package_Overview.pdf?folderId=db3a30431936bc4b0119532290053c66&fileId=db3a30431936bc4b0119533468123c85
footprint INF-SOT23_N (SOT23, 3-Leads, Body 2.9x1.3 mm, Pitch 0.95 mm, IPC Medium Density)
footprint INF-SOT23_L (SOT23, 3-Leads, Body 2.9x1.3 mm, Pitch 0.95 mm, IPC High Density)
footprint INF-SOT23_M (SOT23, 3-Leads, Body 2.9x1.3 mm, Pitch 0.95 mm, IPC Low Density)
pins: 1 A, 2 NC, 3 K

## BAS16-02L
designator D?
Silicon Switching Diode, TSLP-2-1, Reel, Green; Manufacturer: Infineon; PartNumber: BAS16-02L; Configuration: Single; Green: TRUE; IF (max): 200 mA; IR (max): 100 nA; trr (max): 4 ns; VBR (min): 85 V; VF (max): 1.25 V; VR (max): 80 V; PackageReference: TSLP-2-1; PackageDescription: 2-Pin Thin Small Leadless Package, 0.6 x 1 mm Body; Supplier 1: Mouser; Supplier Part Number 1: N/A; Halogen-free: TRUE; Mounting Technology: Surface Mount; ComponentLink1Description: Manufacturer URL; ComponentLink1URL: http://www.infineon.com/; ComponentLink2Description: Datasheet; ComponentLink2URL: http://www.infineon.com/dgdl/bas16series.pdf?folderId=db3a30431400ef6801141b5844e103ea&fileId=db3a30431400ef6801141b93811b03ff; ComponentLink3Description: Package Specification; ComponentLink3URL: http://www.infineon.com/dgdl/TSLP-2-1-Package_Overview.pdf?folderId=db3a30431936bc4b011956a23bb2377c&fileId=db3a30431936bc4b011956b3e8c13795
footprint INF-TSLP-2-1_N (Chip2PinSM, 2-Leads, Body 1x0.6 mm, Pitch 0.65 mm, IPC Medium Density)
footprint INF-TSLP-2-1_L (Chip2PinSM, 2-Leads, Body 1x0.6 mm, Pitch 0.65 mm, IPC High Density)
footprint INF-TSLP-2-1_M (Chip2PinSM, 2-Leads, Body 1x0.6 mm, Pitch 0.65 mm, IPC Low Density)
pins: 1 K, 2 A

## BAS16-02V
designator D?
Silicon Switching Diode, SC79, Reel, Green; Manufacturer: Infineon; PartNumber: BAS16-02V; Configuration: Single; Green: TRUE; IF (max): 200 mA; IR (max): 100 nA; trr (max): 4 ns; VBR (min): 85 V; VF (max): 1.25 V; VR (max): 80 V; PackageReference: SC79; PackageDescription: 2-Pin Semiconductor Package, 0.8 x 1.2 mm Body; Supplier 1: Mouser; Supplier Part Number 1: N/A; Halogen-free: TRUE; Mounting Technology: Surface Mount; ComponentLink1Description: Manufacturer URL; ComponentLink1URL: http://www.infineon.com/; ComponentLink2Description: Datasheet; ComponentLink2URL: http://www.infineon.com/dgdl/bas16series.pdf?folderId=db3a30431400ef6801141b5844e103ea&fileId=db3a30431400ef6801141b93811b03ff; ComponentLink3Description: Package Specification; ComponentLink3URL: http://www.infineon.com/dgdl/SC79-Package_Overview.pdf?folderId=db3a30431936bc4b011951fbddb03b15&fileId=db3a30431936bc4b01195226fe583b41
footprint INF-SC79_V (SC79, 2-Leads, Body 1.2x0.8 mm)
pins: 1 K, 2 A

## BAS16-02W
designator D?
Silicon Switching Diode, SCD80, Reel, Green; Manufacturer: Infineon; PartNumber: BAS16-02W; Configuration: Single; Green: TRUE; IF (max): 200 mA; IR (max): 100 nA; trr (max): 4 ns; VBR (min): 85 V; VF (max): 1.25 V; VR (max): 80 V; PackageReference: SCD80; PackageDescription: 2-Pin Semiconductor Diode Package, 0.8 x 1.3 mm Body; Supplier 1: Mouser; Supplier Part Number 1: N/A; Halogen-free: TRUE; Mounting Technology: Surface Mount; ComponentLink1Description: Manufacturer URL; ComponentLink1URL: http://www.infineon.com/; ComponentLink2Description: Datasheet; ComponentLink2URL: http://www.infineon.com/dgdl/bas16series.pdf?folderId=db3a30431400ef6801141b5844e103ea&fileId=db3a30431400ef6801141b93811b03ff; ComponentLink3Description: Package Specification; ComponentLink3URL: http://www.infineon.com/dgdl/SCD80-Package_Overview.pdf?folderId=db3a30431936bc4b0119526bd5c83b5c&fileId=db3a30431936bc4b0119528065a43b7a
footprint INF-SCD80_V (SCD80, 2-Leads, Body 0.8x1.3 mm)
pins: 1 K, 2 A

## BAS16-03W
designator D?
Silicon Switching Diode, SOD323, Reel, Green; Manufacturer: Infineon; PartNumber: BAS16-03W; Configuration: Single; Green: TRUE; IF (max): 250 mA; IR (max): 100 nA; trr (max): 4 ns; VBR (min): 85 V; VF (max): 1.25 V; VR (max): 80 V; PackageReference: SOD323; PackageDescription: 2-Pin Small Outline Diode Package, 1.25 x 1.7 mm Body; Supplier 1: Mouser; Supplier Part Number 1: N/A; Mounting Technology: Surface Mount; ComponentLink1Description: Manufacturer URL; ComponentLink1URL: http://www.infineon.com/; ComponentLink2Description: Datasheet; ComponentLink2URL: http://www.infineon.com/dgdl/bas16series.pdf?folderId=db3a30431400ef6801141b5844e103ea&fileId=db3a30431400ef6801141b93811b03ff; ComponentLink3Description: Package Specification; ComponentLink3URL: http://www.infineon.com/dgdl/SOD323-Package_Overview.pdf?folderId=db3a30431936bc4b011952aab84f3bbe&fileId=db3a30431936bc4b011952beed653be3
footprint INF-SOD323_V (SOD, 2-Leads, Body 1.7x1.25 mm)
pins: 1 K, 2 A

## BAS16S
designator D?
Silicon Switching Diode, SOT363, Reel, Green; Manufacturer: Infineon; PartNumber: BAS16S; Configuration: Triple; Green: TRUE; IF (max): 200 mA; IR (max): 100 nA; trr (max): 4 ns; VBR (min): 85 V; VF (max): 1.25 V; VR (max): 80 V; PackageReference: SOT363; PackageDescription: 6-Pin Small Outline Transistor Package, 1.25 x 2 mm Body; Supplier 1: Mouser; Supplier Part Number 1: N/A; Halogen-free: TRUE; Mounting Technology: Surface Mount; ComponentLink1Description: Manufacturer URL; ComponentLink1URL: http://www.infineon.com/; ComponentLink2Description: Datasheet; ComponentLink2URL: http://www.infineon.com/dgdl/bas16series.pdf?folderId=db3a30431400ef6801141b5844e103ea&fileId=db3a30431400ef6801141b93811b03ff; ComponentLink3Description: Package Specification; ComponentLink3URL: http://www.infineon.com/dgdl/SOT363-Package_Overview.pdf?folderId=db3a30431936bc4b01195360bd8f3cdc&fileId=db3a30431936bc4b0119536b62bf3cf5
footprint INF-SOT363_V (SOT23, 6-Leads, Body 2x1.25 mm, Pitch 0.65 mm)
pins: 1 A1, 2 A2, 3 A3, 4 K3, 5 K2, 6 K1

## BAS16U
designator D?
Silicon Switching Diode, SC74, Reel, Green; Manufacturer: Infineon; PartNumber: BAS16U; Configuration: Triple; Green: TRUE; IF (max): 200 mA; IR (max): 100 nA; trr (max): 4 ns; VBR (min): 85 V; VF (max): 1.25 V; VR (max): 80 V; PackageVersion: Apr-08; PackageReference: SC74; PackageDescription: 6-Pin Semiconductor Package, 2.9 x 1.6 mm Body, 0.95 mm Pitch; Supplier 1: Mouser; Supplier Part Number 1: N/A; Mounting Technology: Surface Mount; ComponentLink1Description: Manufacturer URL; ComponentLink1URL: http://www.infineon.com/; ComponentLink2Description: Datasheet; ComponentLink2URL: http://www.infineon.com/dgdl/bas16series.pdf?folderId=db3a30431400ef6801141b5844e103ea&fileId=db3a30431400ef6801141b93811b03ff; ComponentLink3Description: Package Specification; ComponentLink3URL: http://www.infineon.com/dgdl/SC74-Package_Overview.pdf?folderId=db3a30431936bc4b01194dec844f40d9&fileId=db3a30431936bc4b01195175d46e3ab3
footprint INF-SC74_N (SOT23, 6-Leads, Body 2.9x1.6mm, Pitch 0.95mm, IPC Medium Density)
footprint INF-SC74_L (SOT23, 6-Leads, Body 2.9x1.6mm, Pitch 0.95mm, IPC High Density)
footprint INF-SC74_M (SOT23, 6-Leads, Body 2.9x1.6mm, Pitch 0.95mm, IPC Low Density)
pins: 1 A1, 2 A2, 3 A3, 4 K3, 5 K2, 6 K1

## BAS16W
designator D?
Silicon Switching Diode, SOT323, Reel, Green; Manufacturer: Infineon; PartNumber: BAS16W; Configuration: Single; Green: TRUE; IF (max): 250 mA; IR (max): 100 nA; trr (max): 4 ns; VBR (min): 85 V; VF (max): 1.25 V; VR (max): 80 V; PackageReference: SOT323; PackageDescription: 3-Pin Small Outline Transistor Package, 1.25 x 2 mm Body, 0.65 mm Pitch; Halogen-free: TRUE; Mounting Technology: Surface Mount; ComponentLink1Description: Manufacturer URL; ComponentLink1URL: http://www.infineon.com/; ComponentLink2Description: Datasheet; ComponentLink2URL: http://www.infineon.com/dgdl/bas16series.pdf?folderId=db3a30431400ef6801141b5844e103ea&fileId=db3a30431400ef6801141b93811b03ff; ComponentLink3Description: Package Specification; ComponentLink3URL: http://www.infineon.com/dgdl/SOT323-Package_Overview.pdf?folderId=db3a30431936bc4b0119533e1dcb3c92&fileId=db3a30431936bc4b011953495f283cb1
footprint INF-SOT323_N (SOT23, 3-Leads, Body 2x1.25 mm, Pitch 0.65 mm, IPC Medium Density)
footprint INF-SOT323_L (SOT23, 3-Leads, Body 2x1.25 mm, Pitch 0.65 mm, IPC High Density)
footprint INF-SOT323_M (SOT23, 3-Leads, Body 2x1.25 mm, Pitch 0.65 mm, IPC Low Density)
pins: 1 A, 2 NC, 3 K

## BAS21
designator D?
Silicon Switching Diode, SOT23, Reel, Green; Manufacturer: Infineon; PartNumber: BAS21; Configuration: Single; Green: TRUE; IF (max): 250 mA; IR (max): 100 nA; trr (max): 50 ns; VBR (min): 250 V; VF (max): 1.25 V; VR (max): 200 V; PackageVersion: Apr-08; PackageReference: SOT23; PackageDescription: 3-Pin Small Outline Transistor Package, 1.3 x 2.9 mm Body, 0.95 mm Pitch; Supplier 1: Newark; Supplier Part Number 1: 96K6750; Supplier 2: Arrow; Supplier Part Number 2: vjQxeL1vf51RUknoKBhc0Q1ROFXckvSQ92jNJ03q8gw; Supplier 3: Farnell; Supplier Part Number 3: 1056498RL; Supplier 4: Farnell; Supplier Part Number 4: 1056498; Mounting Technology: Surface Mount; ComponentLink1Description: Manufacturer URL; ComponentLink1URL: http://www.infineon.com/; ComponentLink2Description: Datasheet; ComponentLink2URL: http://www.infineon.com/dgdl/bas21series.pdf?folderId=db3a30431400ef6801141b5844e103ea&fileId=db3a30431400ef6801141bed353f040f; ComponentLink3Description: Package Specification; ComponentLink3URL: http://www.infineon.com/dgdl/SOT23-Package_Overview.pdf?folderId=db3a30431936bc4b0119532290053c66&fileId=db3a30431936bc4b0119533468123c85
footprint INF-SOT23_N (SOT23, 3-Leads, Body 2.9x1.3 mm, Pitch 0.95 mm, IPC Medium Density)
footprint INF-SOT23_L (SOT23, 3-Leads, Body 2.9x1.3 mm, Pitch 0.95 mm, IPC High Density)
footprint INF-SOT23_M (SOT23, 3-Leads, Body 2.9x1.3 mm, Pitch 0.95 mm, IPC Low Density)
pins: 1 A, 2 NC, 3 K

## BAS21-03W
designator D?
Silicon Switching Diode, SOD323, Reel, Green; Manufacturer: Infineon; PartNumber: BAS21-03W; Configuration: Single; Green: TRUE; IF (max): 250 mA; IR (max): 100 nA; trr (max): 50 ns; VBR (min): 250 V; VF (max): 1.25 V; VR (max): 200 V; PackageReference: SOD323; PackageDescription: 2-Pin Small Outline Diode Package, 1.25 x 1.7 mm Body; Mounting Technology: Surface Mount; ComponentLink1Description: Manufacturer URL; ComponentLink1URL: http://www.infineon.com/; ComponentLink2Description: Datasheet; ComponentLink2URL: http://www.infineon.com/dgdl/bas21series.pdf?folderId=db3a30431400ef6801141b5844e103ea&fileId=db3a30431400ef6801141bed353f040f; ComponentLink3Description: Package Specification; ComponentLink3URL: http://www.infineon.com/dgdl/SOD323-Package_Overview.pdf?folderId=db3a30431936bc4b011952aab84f3bbe&fileId=db3a30431936bc4b011952beed653be3
footprint INF-SOD323_V (SOD, 2-Leads, Body 1.7x1.25 mm)
pins: 1 K, 2 A

## BAS21U
designator D?
Silicon Switching Diode, SC74, Reel, Green; Manufacturer: Infineon; PartNumber: BAS21U; Configuration: Triple; Green: TRUE; IF (max): 250 mA; IR (max): 100 nA; trr (max): 50 ns; VBR (min): 250 V; VF (max): 1.25 V; VR (max): 200 V; PackageVersion: Apr-08; PackageReference: SC74; PackageDescription: 6-Pin Semiconductor Package, 2.9 x 1.6 mm Body, 0.95 mm Pitch; Supplier 1: Mouser; Supplier Part Number 1: N/A; Mounting Technology: Surface Mount; ComponentLink1Description: Manufacturer URL; ComponentLink1URL: http://www.infineon.com/; ComponentLink2Description: Datasheet; ComponentLink2URL: http://www.infineon.com/dgdl/bas21series.pdf?folderId=db3a30431400ef6801141b5844e103ea&fileId=db3a30431400ef6801141bed353f040f; ComponentLink3Description: Package Specification; ComponentLink3URL: http://www.infineon.com/dgdl/SC74-Package_Overview.pdf?folderId=db3a30431936bc4b01194dec844f40d9&fileId=db3a30431936bc4b01195175d46e3ab3
footprint INF-SC74_N (SOT23, 6-Leads, Body 2.9x1.6mm, Pitch 0.95mm, IPC Medium Density)
footprint INF-SC74_L (SOT23, 6-Leads, Body 2.9x1.6mm, Pitch 0.95mm, IPC High Density)
footprint INF-SC74_M (SOT23, 6-Leads, Body 2.9x1.6mm, Pitch 0.95mm, IPC Low Density)
pins: 1 A1, 2 A2, 3 A3, 4 K3, 5 K2, 6 K1